# EAGLE library part APP_CORE (library LearningByMaking2)
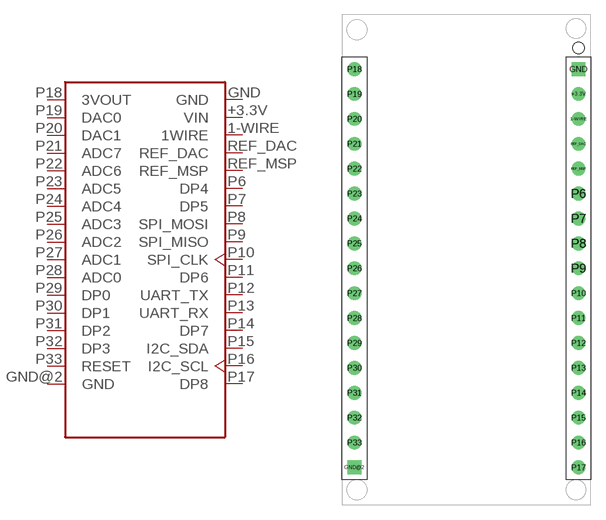
[diagram p4: symbol with the pads of APPCORE_RECEIVER; footprint APPCORE_RECEIVER]

Designator prefix -

## APP_CORE  [APPCORE_RECEIVER]
1-WIRE  1WIRE
+3.3V  VIN  pwr
GND  GND  pwr
GND@2  GND  pwr
P6  DP4
P7  DP5
P8  SPI_MOSI
P9  SPI_MISO
P10  SPI_CLK
P11  DP6
P12  UART_TX  out
P13  UART_RX  in
P14  DP7
P15  I2C_SDA
P16  I2C_SCL
P17  DP8
P18  3VOUT  out
P19  DAC0
P20  DAC1
P21  ADC7  in
P22  ADC6  in
P23  ADC5  in
P24  ADC4  in
P25  ADC3  in
P26  ADC2  in
P27  ADC1  in
P28  ADC0  in
P29  DP0
P30  DP1
P31  DP2
P32  DP3
P33  RESET
REF_DAC  REF_DAC  in
REF_MSP  REF_MSP  in

## Footprint APPCORE_RECEIVER (pad centres in mm)
drill 0.9: 1-WIRE 11.43,14.37; +3.3V 11.43,16.91; P6 11.43,6.75; P7 11.43,4.21; P8 11.43,1.67; P9 11.43,-0.87; P10 11.43,-3.41; P11 11.43,-5.95; P12 11.43,-8.49; P13 11.43,-11.03; P14 11.43,-13.57; P15 11.43,-16.11; P16 11.43,-18.65; P17 11.43,-21.19; P18 -11.43,19.45; P19 -11.43,16.91; P20 -11.43,14.37; P21 -11.43,11.83; P22 -11.43,9.29; P23 -11.43,6.75; P24 -11.43,4.21; P25 -11.43,1.67; P26 -11.43,-0.87; P27 -11.43,-3.41; P28 -11.43,-5.95; P29 -11.43,-8.49; P30 -11.43,-11.03; P31 -11.43,-13.57; P32 -11.43,-16.11; P33 -11.43,-18.65; REF_DAC 11.43,11.83; REF_MSP 11.43,9.29
drill 0.9 square: GND 11.43,19.45; GND@2 -11.43,-21.19